# Altium schematic symbol library SCH - PASSIVES - INDUCTOR CMC.SCHLIB: 1 symbol
Pins are listed as number, name and electrical type; pins without a type are passive.

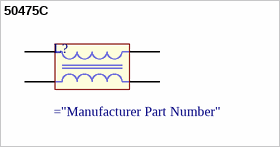
[diagram p0: symbol 50475C]

## 50475C
designator L?
Inductor, CMC, 10k@1MHz, 0.4A
pins: 1 IN1, 2 IN2, 3 OUT2, 4 OUT1